# Altium footprint library PCB - CAPACITOR - ELECTROLYTIC - CAPAE1050X1250N.PcbLib: 1 footprints
Each footprint in its own frame and in the unit in brackets; x right, y up, seen from the top. Pads: shape width x height; smd on the part's side, far side on the other; paste and mask are expansions set on the pad; w line width, h text height; cw(c..) or ccw(c..) is an arc to the next point about the centre after c.
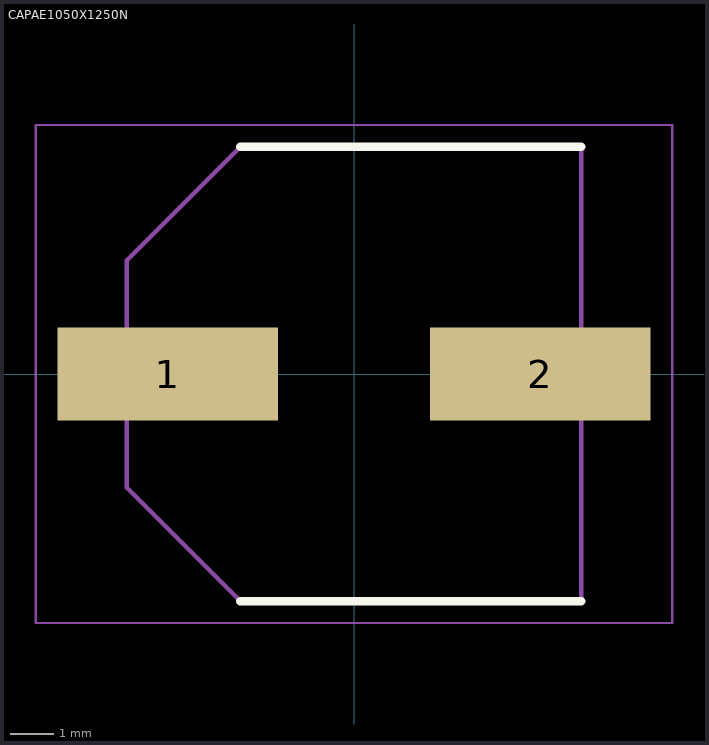
[diagram p0: the footprint, top view; thin cyan lines are the x and y axes]

## CAPAE1050X1250N [mm]
pads (2):
  rect 5.1x2.15 smd: 1(-4.3,0) 2(4.3,0)
Top Overlay:
  lines w0.2: -2.625,-5.25 5.25,-5.25 ; -2.625,5.25 5.25,5.25
Top Assembly:
  lines w0.1: -5.25,-2.625 -5.25,2.625 -2.625,5.25 5.25,5.25 5.25,-5.25 -2.625,-5.25 -5.25,-2.625
Top Courtyard:
  lines w0.05: -7.35,-5.75 -7.35,5.75 7.35,5.75 7.35,-5.75 -7.35,-5.75
Top Designator:
  text ".Designator" at -4.704,1.699 h2.03
3D body "MAL214699904E3.stp": height 12.5, standoff 0, extent -6.05,-5.25 6.05,5.25